# EAGLE library part GPS-PS1E (library 000001)
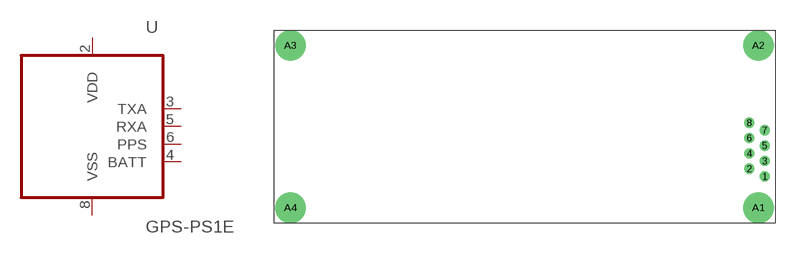
[diagram p72: symbol with the pads of PS1E_1; footprint PS1E_1]

Designator prefix -

## GPS-PS1E  [PS1E_1]
2  VDD  pwr
3  TXA  hiz
4  BATT  hiz
5  RXA  hiz
6  PPS  hiz
8  VSS  pwr

## Footprint PS1E_1 (pad centres in mm)
drill 0.5 pad 1.676 octagon: 1 0.006,0.014
drill 0.5 pad 1.676 round: 2 -2.534,1.284; 3 0.006,2.554; 4 -2.534,3.824; 5 0.006,5.094; 6 -2.534,6.364; 7 0.006,7.634; 8 -2.534,8.865
drill 0.8 pad 5.08 round: A1 -1.026,-5.145; A2 -1.026,21.604; A3 -78.019,21.604; A4 -78.019,-5.145